# EAGLE library part COMMS (library QT1070)
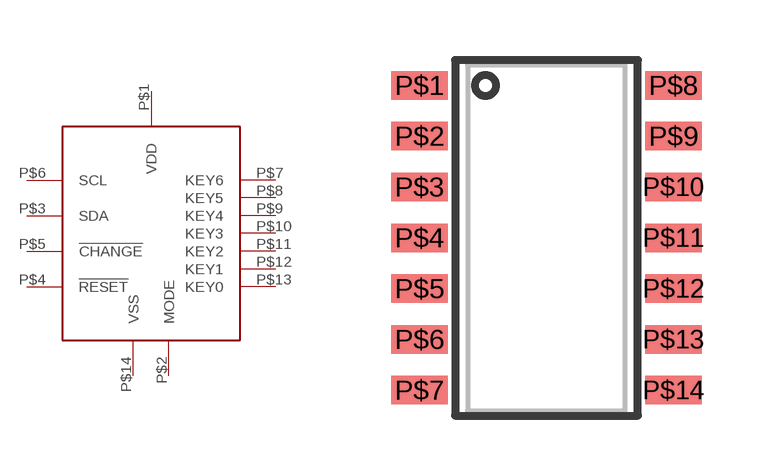
[diagram p1: symbol with the pads of QT1070; footprint QT1070]

Designator prefix -

## COMMS  [QT1070]
P$1  VDD
P$2  MODE
P$3  SDA
P$4  !RESET
P$5  !CHANGE
P$6  SCL
P$7  KEY6
P$8  KEY5
P$9  KEY4
P$10  KEY3
P$11  KEY2
P$12  KEY1
P$13  KEY0
P$14  VSS

## Footprint QT1070 (pad centres in mm)
smd 1.422 x 0.711: P$1 -3.175,3.81; P$2 -3.175,2.54; P$3 -3.175,1.27; P$4 -3.175,0; P$5 -3.175,-1.27; P$6 -3.175,-2.54; P$7 -3.175,-3.81; P$8 3.175,3.81; P$9 3.175,2.54; P$10 3.175,1.27; P$11 3.175,0; P$12 3.175,-1.27; P$13 3.175,-2.54; P$14 3.175,-3.81